# Altium footprint library PcbLib1.PcbLib: 1 footprints
Each footprint in its own frame and in the unit in brackets; x right, y up, seen from the top. Pads: shape width x height; smd on the part's side, far side on the other; paste and mask are expansions set on the pad; w line width, h text height; cw(c..) or ccw(c..) is an arc to the next point about the centre after c.
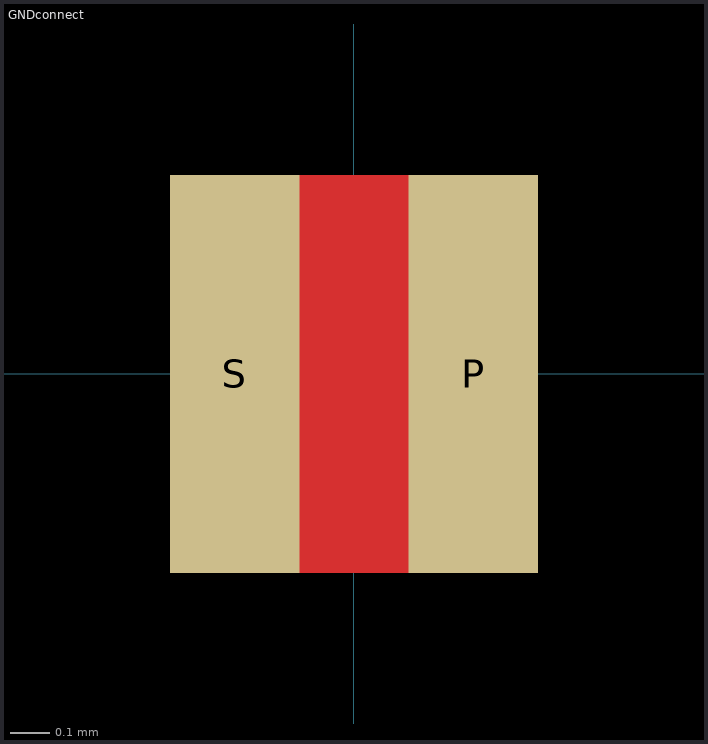
[diagram p0: the footprint, top view; thin cyan lines are the x and y axes]

## GNDconnect [mil] "Connection point between SGND and PGND."
height 10
pads (2):
  rect 13x40 smd paste-99999 mask+0: P(12,0) S(-12,0)
Top Layer:
  rectangle: -7,-20 7,20